# EAGLE library part MP3423 (library ruark2)
Boost Switching Regulator IC Positive Adjustable 2.5V 1 Output 9A (Switch) 14-PowerVFQFN
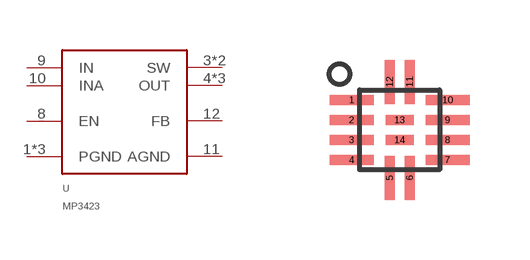
[diagram p178: symbol with the pads of QFN14_MPS; footprint QFN14_MPS]

Designator prefix U

## MP3423 (PARTNO: 1589-1171-1-ND)  [QFN14_MPS]
1  PGND
2  PGND
3  SW
4  OUT
5  OUT
6  OUT
8  EN
9  IN
10  INA
11  AGND
12  FB
13  PGND
14  SW

## Footprint QFN14_MPS (pad centres in mm)
smd 1.1 x 0.25: 1 -1.2,0.75; 2 -1.2,0.25; 3 -1.2,-0.25; 4 -1.2,-0.75; 7 1.2,-0.75; 8 1.2,-0.25; 9 1.2,0.25; 10 1.2,0.75
smd 0.25 x 1.1: 5 -0.25,-1.2; 6 0.25,-1.2; 11 0.25,1.2; 12 -0.25,1.2
smd 0.7 x 0.25: 13 0,0.25; 14 0,-0.25